# Altium footprint library vitech_fuses.PcbLib: 3 footprints
Each footprint in its own frame and in the unit in brackets; x right, y up, seen from the top. Pads: shape width x height; smd on the part's side, far side on the other; paste and mask are expansions set on the pad; w line width, h text height; cw(c..) or ccw(c..) is an arc to the next point about the centre after c.
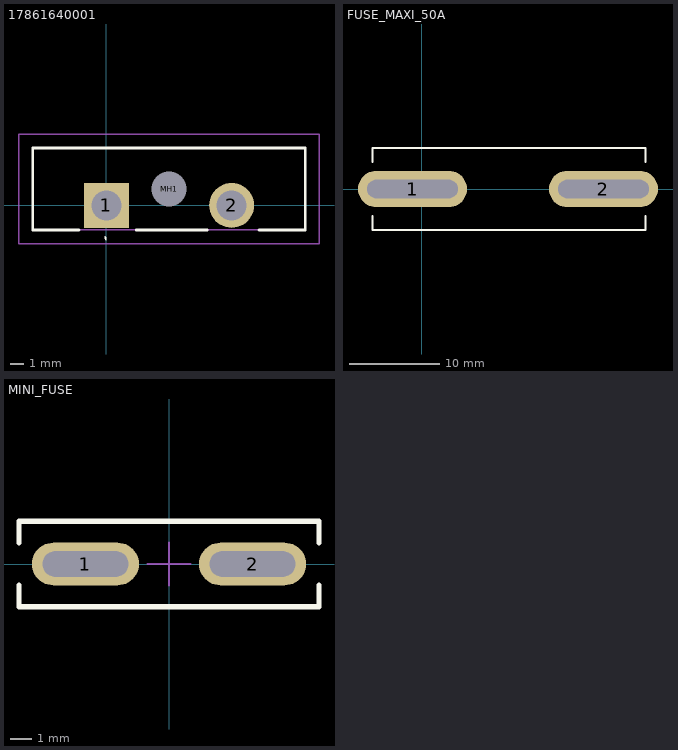
[diagram p0: the footprints below, top view; thin cyan lines are the x and y axes]

## 17861640001 [mm] "Automotive Fuse holder THT-Mount"
pads (3):
  rect 3.3x3.3 hole 2.2: 1(0,0)
  round 3.3 hole 2.2: 2(9.2,0)
  round 1.3 hole 2.6 unplated: MH1(4.6,1.2)
Top Overlay:
  lines w0.1: -0.1,-2.4 ccw(c-0.1,-2.35) -0.1,-2.3 ; 0,-2.513 cw(c0,-2.463) 0,-2.413
  lines w0.2: -2,-1.8 -5.4,-1.8 -5.4,4.2 14.6,4.2 14.6,-1.8 11.2,-1.8 ; 2.2,-1.8 7.4,-1.8
Top Assembly:
  text ".Designator" at 2.742,5.728 h0.5
Mechanical 13:
  lines w0.1: -5.4,-1.8 -5.4,4.2 14.6,4.2 14.6,-1.8 -5.4,-1.8
Mechanical 15:
  lines w0.1: -6.4,-2.8 -6.4,5.2 15.6,5.2 15.6,-2.8 -6.4,-2.8
Mechanical 19:
  text ".Comment" at 2.774,6.566 h0.5
3D body "178.6164.0000.step.SLDPRT": height 17.65, standoff -3.85, extent -5.515,-1.783 14.635,4.217

## FUSE_MAXI_50A [mm]
pads (2):
  oval 12x4 hole 2 slot 10 at 0 deg: 1(-1,0) 2(20,0)
Top Overlay:
  lines w0.254: -5.414,-3 -5.414,-4.5 -5.384,-4.5 24.616,-4.5 24.616,-3 ; -5.414,3 -5.414,4.5 -5.384,4.5 24.616,4.5 24.616,3
Mechanical 17:
  text ".Designator" at 8.634,6.338 h0.5
Mechanical 19:
  text ".Comment" at 8.634,5.688 h0.5
3D body "50A MAXI FUSE, RED.STEP": height 28.06, standoff -6.04, extent -5.134,-4.5 24.366,4.5

## MINI_FUSE [mm]
pads (2):
  oval 5x2 hole 1.2 slot 4 at 0 deg: 1(-3.9,0) 2(3.9,0)
Top Overlay:
  lines w0.254: -7,-1 -7,-2 7,-2 7,-1 ; -7,1 -7,2 7,2 7,1
Assembly:
  lines w0.1: -1,0 1,0 ; 0,-1 0,1
  lines w0.2: -7,-1 -7,-2 7,-2 7,-1 ; -7,1 -7,2 7,2 7,1
Mechanical 17:
  text ".Designator" at -1.4,3.2 h0.5
Mechanical 19:
  text ".Comment" at -1.4,2.6 h0.5
3D body "User Library-0297025.STEP": height 11.8, standoff -5.13, extent -5.437,-1.837 5.463,1.973